# EAGLE library part MKDS1/13-3,5 (library con-phoenix-350)
MKDS 1/13-3,5 - Order No. 1751358 Pitch: 3,5mm Number of terminals: 13 Rated Voltage: 160V Maximum load current/ cross section: 12A/1.5mm2-AWG16 Housing Interlocking: none Color: Green
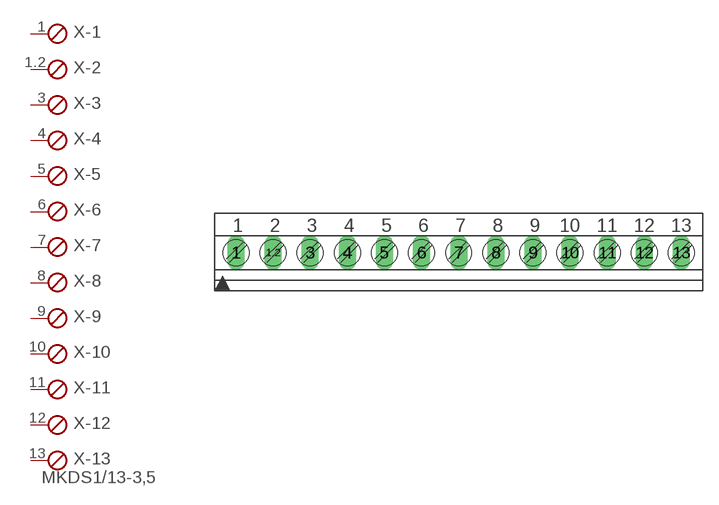
[diagram p7: symbol with the pads of 13POL350; footprint 13POL350]

Designator prefix X; gates -1=SKB -2=SKB -3=SKB -4=SKB -5=SKB -6=SKB -7=SKB -8=SKB -9=SKB -10=SKB -11=SKB -12=SKB -13=SKBV

## MKDS1/13-3,5  [13POL350]
1  -1:1  pas
1.2  -2:1  pas
3  -3:1  pas
4  -4:1  pas
5  -5:1  pas
6  -6:1  pas
7  -7:1  pas
8  -8:1  pas
9  -9:1  pas
10  -10:1  pas
11  -11:1  pas
12  -12:1  pas
13  -13:1  pas

## Footprint 13POL350 (pad centres in mm)
PHOENIX CONNECTOR 12 POL 3.81
drill 1.1 long: 1 0,0; 1.2 3.5,0; 3 7,0; 4 10.5,0; 5 14,0; 6 17.5,0; 7 21,0; 8 24.5,0; 9 28,0; 10 31.5,0; 11 35,0; 12 38.5,0; 13 42,0